# Altium footprint library C1206.PcbLib: 4 footprints
Each footprint in its own frame and in the unit in brackets; x right, y up, seen from the top. Pads: shape width x height; smd on the part's side, far side on the other; paste and mask are expansions set on the pad; w line width, h text height; cw(c..) or ccw(c..) is an arc to the next point about the centre after c.
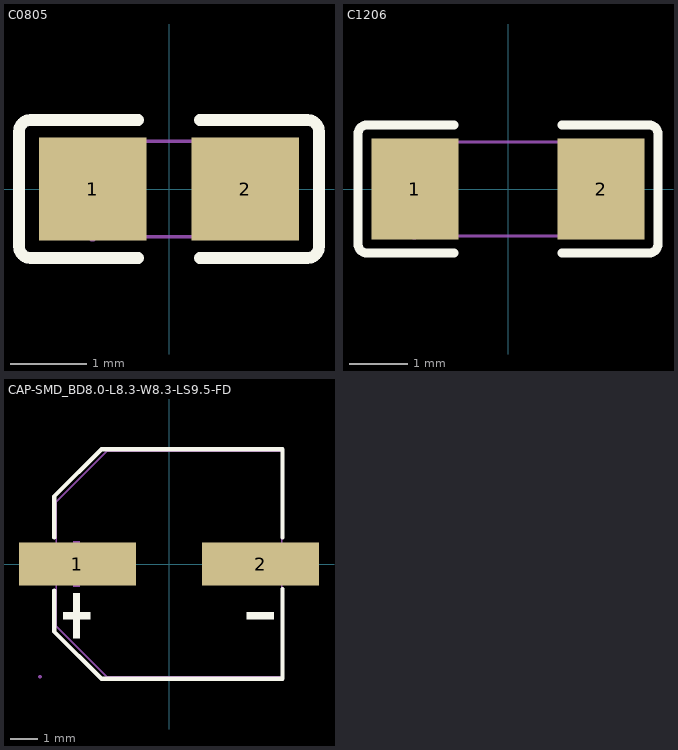
[diagram p0: the footprints below, top view; thin cyan lines are the x and y axes]

## C0805 [mm]
pads (2):
  rect 1.41x1.35 smd paste-100 mask+0.051: 1(-1,0) 2(1,0)
Top Overlay:
  lines w0.152: -0.401,-0.904 -1.811,-0.904 cw(c-1.811,-0.751) -1.964,-0.751 -1.964,0.751 cw(c-1.811,0.751) -1.811,0.904 -0.401,0.904 ; 0.401,-0.904 1.811,-0.904 ccw(c1.811,-0.751) 1.964,-0.751 1.964,0.751 ccw(c1.811,0.751) 1.811,0.904 0.401,0.904
Top Paste:
  region: -1.705,-0.64 -1.705,0.64 -1.655,0.69 -0.505,0.69 -0.455,0.64 -0.45,0.23 -0.9,0.23 -0.9,-0.22 -0.46,-0.22 -0.455,-0.64 -0.505,-0.69 -1.655,-0.69
  region: 1.705,0.64 1.705,-0.64 1.655,-0.69 0.505,-0.69 0.455,-0.64 0.45,-0.23 0.9,-0.23 0.9,0.22 0.46,0.22 0.455,0.64 0.505,0.69 1.655,0.69
Mechanical 15:
  region: -0.94,-0.625 -0.941,-0.601 -0.976,-0.568 -1.024,-0.568 -1.059,-0.601 -1.06,-0.625 -1.059,-0.649 -1.024,-0.683 -0.976,-0.683 -0.941,-0.649
  region: -1,-0.625 -1,0.625 -0.5,0.625 -0.5,-0.625
  region: 1,0.625 1,-0.625 0.5,-0.625 0.5,0.625
  lines w0.051: -1,-0.625 -1,0.625 1,0.625 1,-0.625 -1,-0.625
3D body "C805.STEP": height 0.7, standoff 0, extent -1,-0.625 1,0.625

## C1206 [mm]
pads (2):
  rect 1.485x1.728 smd paste-100 mask+0.051: 1(-1.593,0) 2(1.593,0)
Top Overlay:
  lines w0.152: -0.926,-1.093 -2.411,-1.093 cw(c-2.411,-0.94) -2.564,-0.94 -2.564,0.94 cw(c-2.411,0.94) -2.411,1.093 -0.926,1.093 ; 0.926,-1.093 2.411,-1.093 ccw(c2.411,-0.94) 2.564,-0.94 2.564,0.94 ccw(c2.411,0.94) 2.411,1.093 0.926,1.093
Top Paste:
  region: 0.85,-0.764 0.85,-0.394 0.95,-0.294 1.255,-0.294 1.355,-0.194 1.355,0.194 1.255,0.294 0.95,0.294 0.85,0.394 0.85,0.764 0.95,0.864 2.235,0.864 2.335,0.764 2.335,-0.764 2.235,-0.864 0.95,-0.864
  region: -0.85,-0.764 -0.85,-0.394 -0.95,-0.294 -1.255,-0.294 -1.355,-0.194 -1.355,0.194 -1.255,0.294 -0.95,0.294 -0.85,0.394 -0.85,0.764 -0.95,0.864 -2.235,0.864 -2.335,0.764 -2.335,-0.764 -2.235,-0.864 -0.95,-0.864
Mechanical 15:
  region: -1.54,-0.8 -1.541,-0.776 -1.576,-0.742 -1.624,-0.742 -1.659,-0.776 -1.66,-0.8 -1.659,-0.824 -1.624,-0.858 -1.576,-0.858 -1.541,-0.824
  region: -1.6,-0.8 -1.6,0.8 -1.1,0.8 -1.1,-0.8
  region: 1.6,-0.8 1.6,0.8 1.1,0.8 1.1,-0.8
  lines w0.051: -1.6,-0.8 -1.6,0.8 1.6,0.8 1.6,-0.8 -1.6,-0.8
3D body "C1210.STEP": height 1.59, standoff -0.01, extent -1.6,-0.889 1.6,0.911

## CAP-SMD_BD8.0-L8.3-W8.3-LS9.5-FD [mm]
pads (2):
  rect 4.3x1.6 smd: 1(-3.373,0) 2(3.373,0)
Top Overlay:
  region: 3.85,-1.785 3.85,-2.033 2.854,-2.033 2.854,-1.785
  region: -3.902,-1.785 -3.902,-2.033 -2.906,-2.033 -2.906,-1.785
  region: -3.528,-1.079 -3.528,-2.739 -3.279,-2.739 -3.279,-1.079
  lines w0.152: -4.227,-0.98 -4.227,-2.49 -2.49,-4.226 4.176,-4.226 ; -4.227,0.98 -4.227,2.49 -2.49,4.226 4.176,4.226 4.176,0.98 ; 4.176,-4.172 4.176,-0.926
Mechanical 6:
  region: 3.85,0.125 3.85,-0.125 2.854,-0.125 2.854,0.125
  region: -3.902,0.125 -3.902,-0.125 -2.906,-0.125 -2.906,0.125
  region: -3.528,0.83 -3.528,-0.83 -3.279,-0.83 -3.279,0.83
Mechanical 15:
  region: 1.35,0.325 4.75,0.325 4.75,-0.325 1.35,-0.325
  region: -4.75,0.325 -1.35,0.325 -1.35,-0.325 -4.75,-0.325
  region: -4.69,-4.15 -4.69,-4.125 -4.725,-4.09 -4.775,-4.09 -4.81,-4.125 -4.81,-4.15 -4.81,-4.175 -4.775,-4.21 -4.725,-4.21 -4.69,-4.175
  lines w0.051: -4.15,-2.3 -4.15,2.3 -2.3,4.15 4.15,4.15 4.15,-4.15 -2.3,-4.15 -4.15,-2.3
3D body "AEC cap.STEP": height 10.2, standoff 0, extent -4.85,-4.15 4.85,4.15

## PCBComponent_1 [mm]